# Altium footprint library FTSH-105-01-F-DV-K-A.PcbLib: 1 footprints
Each footprint in its own frame and in the unit in brackets; x right, y up, seen from the top. Pads: shape width x height; smd on the part's side, far side on the other; paste and mask are expansions set on the pad; w line width, h text height; cw(c..) or ccw(c..) is an arc to the next point about the centre after c.
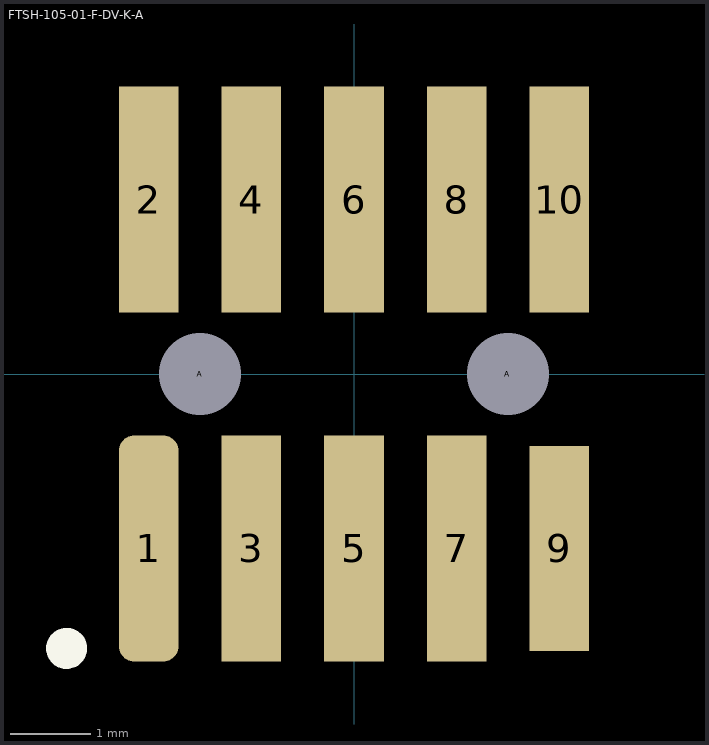
[diagram p0: the footprint, top view; thin cyan lines are the x and y axes]

## FTSH-105-01-F-DV-K-A [mil] "Samtec FTSH-105-01-F-DV-K-A SMT Connector"
height 235.04
pads (12):
  rrect50% 29x110 smd: 1(-100,-85)
  rect 29x110 smd: 2(-100,85) 3(-50,-85) 4(-50,85) 5(0,-85) 6(0,85) 7(50,-85) 8(50,85) 10(100,85)
  rect 29x100 smd: 9(100,-85)
  round 5 hole 40 unplated mask+20: A(-75,0) A(75,0)
Top Overlay:
  circle w10: c-140,-133.64 r5
3D body "FTSH-105-01-X-DV-K-A.step": height 241, standoff -34, extent -125,-115.01 125,114.99